# Altium footprint library DCSupplyHupLib.PcbLib: 21 footprints (part 1 of 2)
Each footprint in its own frame and in the unit in brackets; x right, y up, seen from the top. Pads: shape width x height; smd on the part's side, far side on the other; paste and mask are expansions set on the pad; w line width, h text height; cw(c..) or ccw(c..) is an arc to the next point about the centre after c.
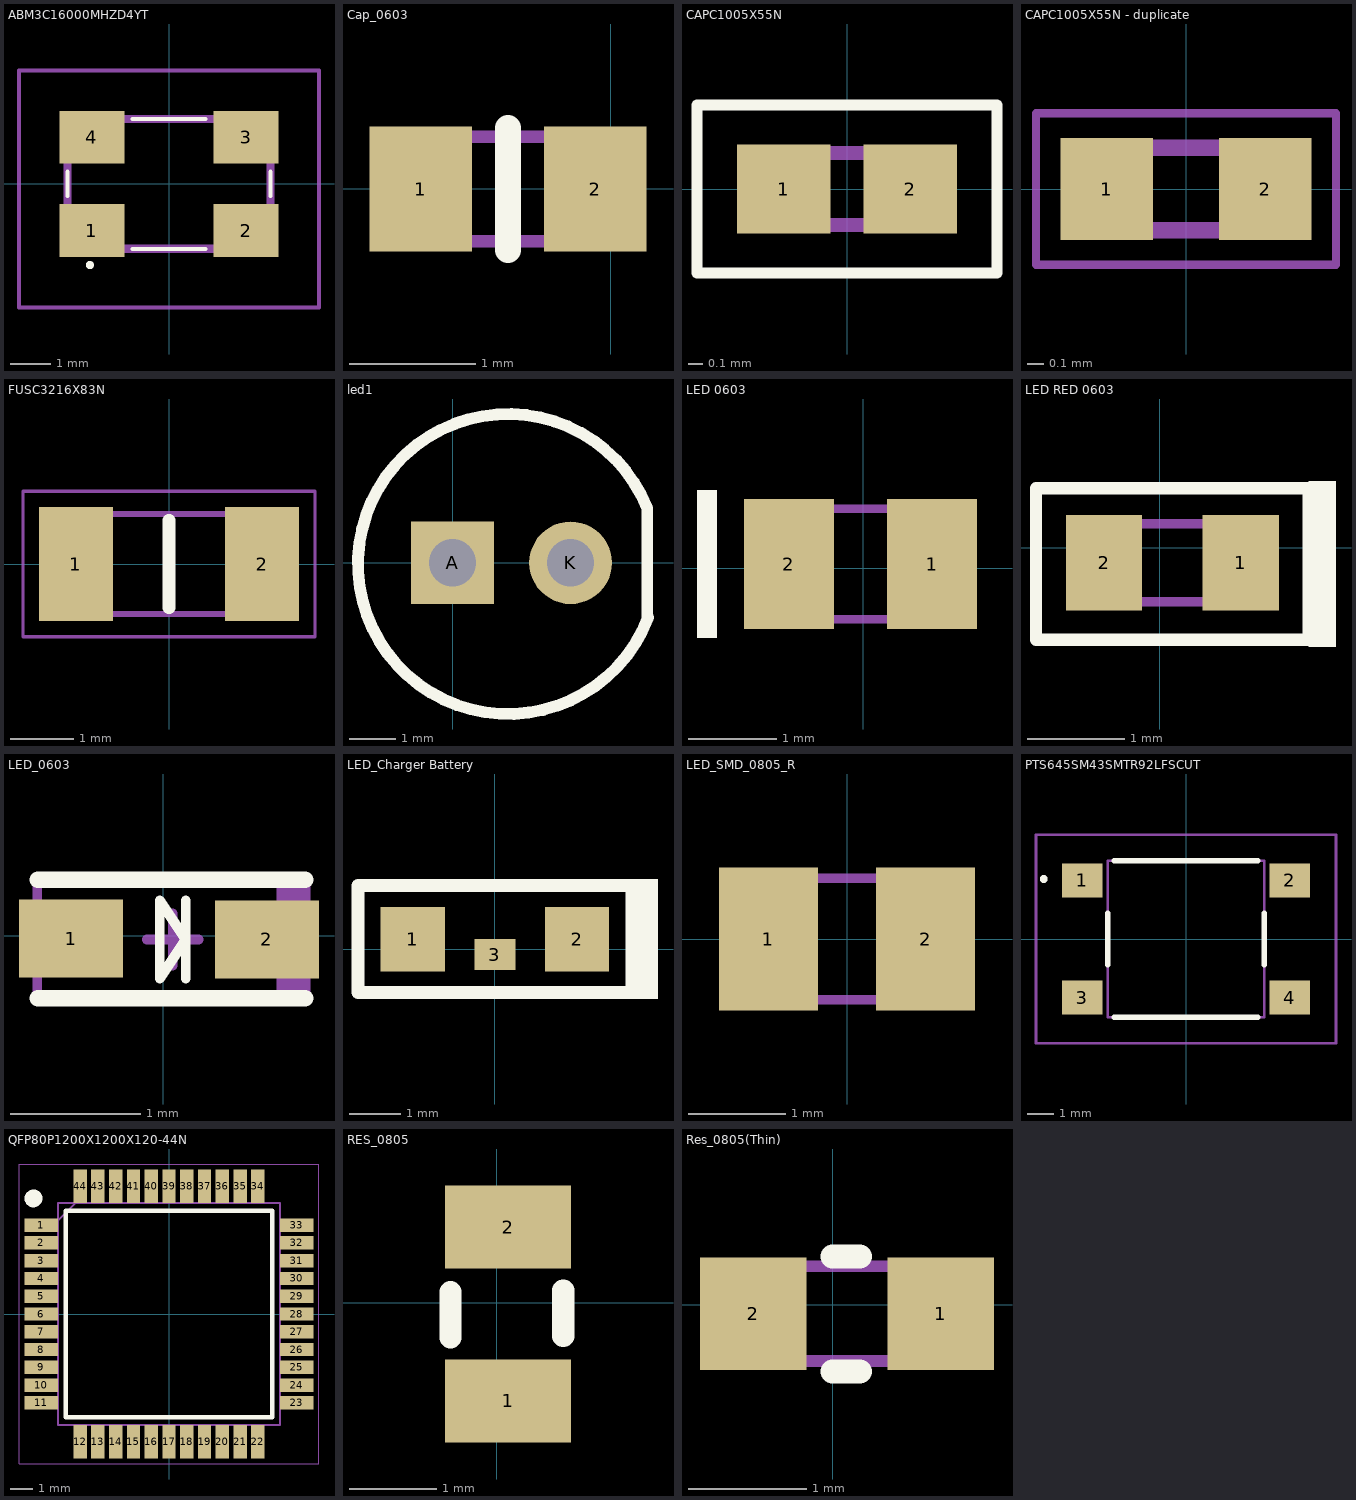
[diagram p0: the footprints below, top view; thin cyan lines are the x and y axes]

## ABM3C16000MHZD4YT [mm]
pads (4):
  rect 1.6x1.3 smd: 1(-1.9,-1.15) 2(1.9,-1.15) 3(1.9,1.15) 4(-1.9,1.15)
Top Overlay:
  circle w0.1: c-1.95,-2 r0.05
  circle w0.1: c-1.95,-2 r0.05
  lines w0.1: -2.5,-0.3 -2.5,0.3 ; -0.9,-1.6 0.9,-1.6 ; -0.9,1.6 0.9,1.6 ; 2.5,-0.3 2.5,0.3
Mechanical 13:
  lines w0.2: -2.5,-1.6 -2.5,1.6 2.5,1.6 2.5,-1.6 -2.5,-1.6
Mechanical 15:
  lines w0.1: -3.7,-3.05 -3.7,2.8 3.7,2.8 3.7,-3.05 -3.7,-3.05
3D body "ABM3C-16.000MHZ-D4Y-T.stp": height 1.4, standoff 0, extent -2.57,-1.67 2.57,1.67

## Cap_0603 [mm]
pads (2):
  rect 0.81x0.99 smd: 1(-1.503,0) 2(-0.123,0)
Top Overlay:
  lines w0.203: -0.813,-0.483 -0.813,0.483
Mechanical 13:
  lines w0.1: -1.625,-0.412 -1.625,0.412 -0.001,0.412 -0.001,-0.412 -1.625,-0.412
3D body "0603B104K500CT.stp": height 0.95, standoff 0, extent -1.625,-0.413 0,0.413

## CAPC1005X55N [mm]
pads (2):
  rect 0.65x0.62 smd: 1(-0.44,0) 2(0.44,0)
Top Overlay:
  lines w0.076: -1.041,-0.584 1.041,-0.584 1.041,0.584 -1.041,0.584 -1.041,-0.584
Mechanical 13:
  lines w0.1: -0.5,-0.25 0.5,-0.25 0.5,0.25 -0.5,0.25 -0.5,-0.25
3D body "C0402C829D3GACTU.stp": height 0.55, standoff 0, extent -0.5,-0.25 0.5,0.25

## CAPC1005X55N - duplicate [mm]
pads (2):
  rect 0.56x0.62 smd: 1(-0.48,0) 2(0.48,0)
Mechanical 13:
  lines w0.1: -0.5,-0.25 0.5,-0.25 0.5,0.25 -0.5,0.25 -0.5,-0.25
Mechanical 15:
  lines w0.05: -0.91,-0.46 0.91,-0.46 0.91,0.46 -0.91,0.46 -0.91,-0.46
3D body "0402B104K160CT.stp": height 0.55, standoff 0, extent -0.5,-0.25 0.5,0.25

## FUSC3216X83N [mm]
pads (2):
  rect 1.17x1.8 smd: 1(-1.47,0) 2(1.47,0)
Top Overlay:
  lines w0.2: 0,-0.69 0,0.69
Mechanical 15:
  lines w0.1: -1.6,-0.79 -1.6,0.79 1.6,0.79 1.6,-0.79 -1.6,-0.79
Mechanical 20:
  lines w0.05: -2.305,-1.15 -2.305,1.15 2.305,1.15 2.305,-1.15 -2.305,-1.15

## led1 [mil]
pads (2):
  rect 70x70 hole 40: A(0,0)
  round 70 hole 40: K(100,0)
Top Overlay:
  lines w10: 164.97,-46 164.97,46.21 ccw(c47,-1) 165.72,-46.29
3D body "LED_3mm_ Green.STEP": height 255.91, standoff -78.74, extent -23.9,-75 113.9,74.61

## LED 0603 [mm]
pads (2):
  rect 1.02x1.47 smd: 1(0.782,0.051) 2(-0.838,0.051)
Top Overlay:
  rectangle: -1.88,-0.787 -1.651,0.889
Mechanical 13:
  lines w0.1: -1.033,-0.574 0.977,-0.574 0.977,0.676 -1.033,0.676 -1.033,-0.574
3D body "LED_SMD_0805_R.step": height 1.1, standoff -0.01, extent -1.028,-0.574 0.972,0.676

## LED RED 0603 [mm]
pads (2):
  rect 0.78x0.98 smd: 1(0.827,-0.152) 2(-0.573,-0.152)
Top Overlay:
  region: 1.803,0.686 1.524,0.686 1.524,-1.016 1.803,-1.016
  lines w0.127: -1.27,-0.94 -1.27,0.61 1.524,0.61 1.524,-0.94 -1.27,-0.94
Mechanical 13:
  lines w0.1: -0.673,-0.552 -0.673,0.248 0.927,0.248 0.927,-0.552 -0.673,-0.552
3D body "LED_SMD_0603_R.STEP": height -0.46, standoff -1.06, extent -0.648,-0.561 0.952,0.239

## LED_0603 [mm]
pads (2):
  rect 0.8x0.6 smd: 1(-0.708,-0.022) 2(0.799,-0.029)
Top Overlay:
  lines w0.076: 0.174,-0.329 0.174,0.271 ; -0.026,-0.329 -0.026,0.271 0.174,-0.029 -0.026,-0.329
  lines w0.127: -0.965,-0.483 1.092,-0.483 ; -0.965,0.432 1.092,0.432
Mechanical 15:
  lines w0.076: -0.126,-0.029 0.274,-0.029 ; 0.074,-0.229 0.074,0.171 ; -0.967,-0.482 -0.967,0.425 1.095,0.425 1.095,-0.482 -0.967,-0.482
Mechanical 29:
  region: 1.095,0.425 0.874,0.425 0.874,-0.482 1.095,-0.482
  lines w0.076: -0.967,-0.482 1.095,-0.482 1.095,0.425 -0.967,0.425 -0.967,-0.482
  text "'.Designator'" at -0.726,-0.229 h0.38
3D body "User Library-LED SMD0805.STEP": height 0.85, standoff 0.01, extent -0.967,-0.482 1.095,0.425

## LED_Charger Battery [mm]
pads (3):
  rect 1.25x1.25 smd: 1(-1.6,0.2) 2(1.6,0.2)
  rect 0.8x0.6 smd: 3(0,-0.1)
Top Overlay:
  region: 3.175,1.372 2.54,1.372 2.54,-0.965 3.175,-0.965
  lines w0.254: -2.667,-0.838 2.667,-0.838 2.667,1.245 -2.667,1.245 -2.667,-0.838

## LED_SMD_0805_R [mm]
pads (2):
  rect 1.02x1.47 smd: 1(-0.81,0) 2(0.81,0)
Mechanical 13:
  lines w0.1: -1.005,-0.625 1.005,-0.625 1.005,0.625 -1.005,0.625 -1.005,-0.625
3D body "LED_SMD_0805_R.step": height 1.1, standoff -0.01, extent -1,-0.625 1,0.625

## PCBComponent_1 [mm]

## PTS645SM43SMTR92LFSCUT [mm]
pads (4):
  rect 1.55x1.3 smd: 1(-3.975,2.25) 2(3.975,2.25) 3(-3.975,-2.25) 4(3.975,-2.25)
Top Overlay:
  lines w0.2: -3,-1 -3,1 ; -2.75,-3 2.75,-3 ; -2.75,3 2.75,3 ; 3,-1 3,1 ; -5.5,2.3 ccw(c-5.45,2.3) -5.4,2.3 ; -5.5,2.3 cw(c-5.45,2.3) -5.4,2.3 ; -5.5,2.3 ccw(c-5.45,2.3) -5.4,2.3
Mechanical 15:
  lines w0.1: -3,-3 3,-3 3,3 -3,3 -3,-3
Mechanical 20:
  lines w0.1: -5.75,-4 5.75,-4 5.75,4 -5.75,4 -5.75,-4

## QFP80P1200X1200X120-44N [mm]
pads (44):
  rect 1.5x0.6 smd: 1(-5.75,4) 2(-5.75,3.2) 3(-5.75,2.4) 4(-5.75,1.6) 5(-5.75,0.8) 6(-5.75,0) 7(-5.75,-0.8) 8(-5.75,-1.6) 9(-5.75,-2.4) 10(-5.75,-3.2) 11(-5.75,-4) 23(5.75,-4) 24(5.75,-3.2) 25(5.75,-2.4) 26(5.75,-1.6) 27(5.75,-0.8) 28(5.75,0) 29(5.75,0.8) 30(5.75,1.6) 31(5.75,2.4) 32(5.75,3.2) 33(5.75,4)
  rect 0.6x1.5 smd: 12(-4,-5.75) 13(-3.2,-5.75) 14(-2.4,-5.75) 15(-1.6,-5.75) 16(-0.8,-5.75) 17(0,-5.75) 18(0.8,-5.75) 19(1.6,-5.75) 20(2.4,-5.75) 21(3.2,-5.75) 22(4,-5.75) 34(4,5.75) 35(3.2,5.75) 36(2.4,5.75) 37(1.6,5.75) 38(0.8,5.75) 39(0,5.75) 40(-0.8,5.75) 41(-1.6,5.75) 42(-2.4,5.75) 43(-3.2,5.75) 44(-4,5.75)
Top Overlay:
  circle w0.4: c-6.1,5.2 r0.2
  lines w0.2: -4.65,-4.65 -4.65,4.65 4.65,4.65 4.65,-4.65 -4.65,-4.65
Mechanical 15:
  lines w0.1: -5,4.2 -4.2,5 ; -5,-5 -5,5 5,5 5,-5 -5,-5
Mechanical 20:
  lines w0.05: -6.75,-6.75 -6.75,6.75 6.75,6.75 6.75,-6.75 -6.75,-6.75

## RES_0805 [mm]
pads (2):
  rect 1.45x0.95 smd: 1(0.127,-1.127) 2(0.127,0.873)
Top Overlay:
  lines w0.254: -0.533,-0.398 -0.533,0.127 ; 0.762,-0.381 0.762,0.144
3D body "CRCW080533K0FKEA.stp": height 0.5, standoff 0, extent -0.498,-1.152 0.752,0.898

## Res_0805(Thin) [mm]
pads (2):
  rect 0.9x0.95 smd: 1(0.914,-0.076) 2(-0.673,-0.076)
Top Overlay:
  lines w0.203: 0,-0.565 0.229,-0.565 ; 0,0.406 0.229,0.406
Mechanical 13:
  lines w0.1: -0.673,-0.476 -0.673,0.324 0.927,0.324 0.927,-0.476 -0.673,-0.476
3D body "CRCW06031K00FKEAC.stp": height 0.55, standoff 0, extent -0.673,-0.476 0.927,0.324